# EAGLE library part TEENSY-3.5/3.6-BREAKOUT-REV-A-STANDARD (library Teensy-Breakout-Eagle-Library)
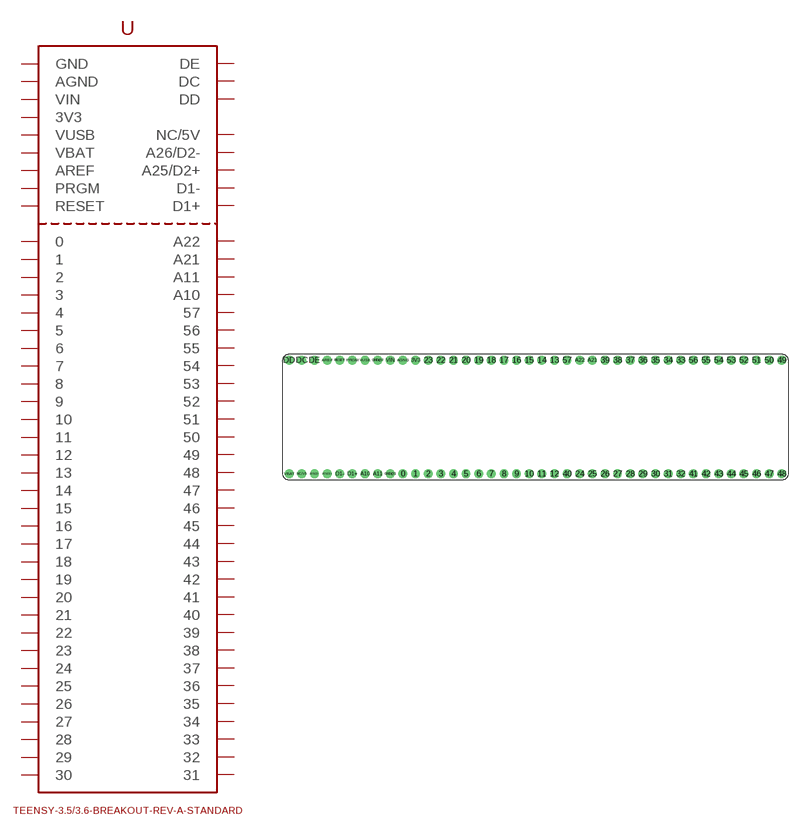
[diagram p4: symbol with the pads of TEENSY-3.5/3.6-BREAKOUT-REV-A-STANDARD; footprint TEENSY-3.5/3.6-BREAKOUT-REV-A-STANDARD]

Designator prefix -

## TEENSY-3.5/3.6-BREAKOUT-REV-A-STANDARD  [TEENSY-3.5/3.6-BREAKOUT-REV-A-STANDARD]
0  0
1  1
2  2
3  3
3V3  3V3
4  4
5  5
6  6
7  7
8  8
9  9
10  10
11  11
12  12
13  13
14  14
15  15
16  16
17  17
18  18
19  19
20  20
21  21
22  22
23  23
24  24
25  25
26  26
27  27
28  28
29  29
30  30
31  31
32  32
33  33
34  34
35  35
36  36
37  37
38  38
39  39
40  40
41  41
42  42
43  43
44  44
45  45
46  46
47  47
48  48
49  49
50  50
51  51
52  52
53  53
54  54
55  55
56  56
57  57
A10  A10
A11  A11
A21  A21
A22  A22
A25/D2+  A25/D2+
A26/D2-  A26/D2-
AGND  AGND
AREF  AREF
D1+  D1+
D1-  D1-
DC  DC
DD  DD
DE  DE
GND@1  GND
GND@2  GND
NC/V5  NC/5V
PRGM  PRGM
RESET  RESET
VBAT  VBAT
VIN  VIN
VUSB  VUSB

## Footprint TEENSY-3.5/3.6-BREAKOUT-REV-A-STANDARD (pad centres in mm)
drill 1.016 pad 1.778: 0 24.13,1.27; 1 26.67,1.27; 2 29.21,1.27; 3 31.75,1.27; 3V3 26.67,24.13; 4 34.29,1.27; 5 36.83,1.27; 6 39.37,1.27; 7 41.91,1.27; 8 44.45,1.27; 9 46.99,1.27; 10 49.53,1.27; 11 52.07,1.27; 12 54.61,1.27; 13 54.61,24.13; 14 52.07,24.13; 15 49.53,24.13; 16 46.99,24.13; 17 44.45,24.13; 18 41.91,24.13; 19 39.37,24.13; 20 36.83,24.13; 21 34.29,24.13; 22 31.75,24.13; 23 29.21,24.13; 24 59.69,1.27; 25 62.23,1.27; 26 64.77,1.27; 27 67.31,1.27; 28 69.85,1.27; 29 72.39,1.27; 30 74.93,1.27; 31 77.47,1.27; 32 80.01,1.27; 33 80.01,24.13; 34 77.47,24.13; 35 74.93,24.13; 36 72.39,24.13; 37 69.85,24.13; 38 67.31,24.13; 39 64.77,24.13; 40 57.15,1.27; 41 82.55,1.27; 42 85.09,1.27; 43 87.63,1.27; 44 90.17,1.27; 45 92.71,1.27; 46 95.25,1.27; 47 97.79,1.27; 48 100.33,1.27; 49 100.33,24.13; 50 97.79,24.13; 51 95.25,24.13; 52 92.71,24.13; 53 90.17,24.13; 54 87.63,24.13; 55 85.09,24.13; 56 82.55,24.13; 57 57.15,24.13; A10 16.51,1.27; A11 19.05,1.27; A21 62.23,24.13; A22 59.69,24.13; A25/D2+ 8.89,1.27; A26/D2- 6.35,1.27; AGND 24.13,24.13; AREF 8.89,24.13; D1+ 13.97,1.27; D1- 11.43,1.27; DC 3.81,24.13; DD 1.27,24.13; DE 6.35,24.13; GND@1 21.59,1.27; GND@2 19.05,24.13; NC/V5 3.81,1.27; PRGM 13.97,24.13; RESET 11.43,24.13; VBAT 1.27,1.27; VIN 21.59,24.13; VUSB 16.51,24.13